# Altium footprint library MLACH_obsolete.PCBLIB: 154 footprints (part 6 of 10)
Each footprint in its own frame and in the unit in brackets; x right, y up, seen from the top. Pads: shape width x height; smd on the part's side, far side on the other; paste and mask are expansions set on the pad; w line width, h text height; cw(c..) or ccw(c..) is an arc to the next point about the centre after c.
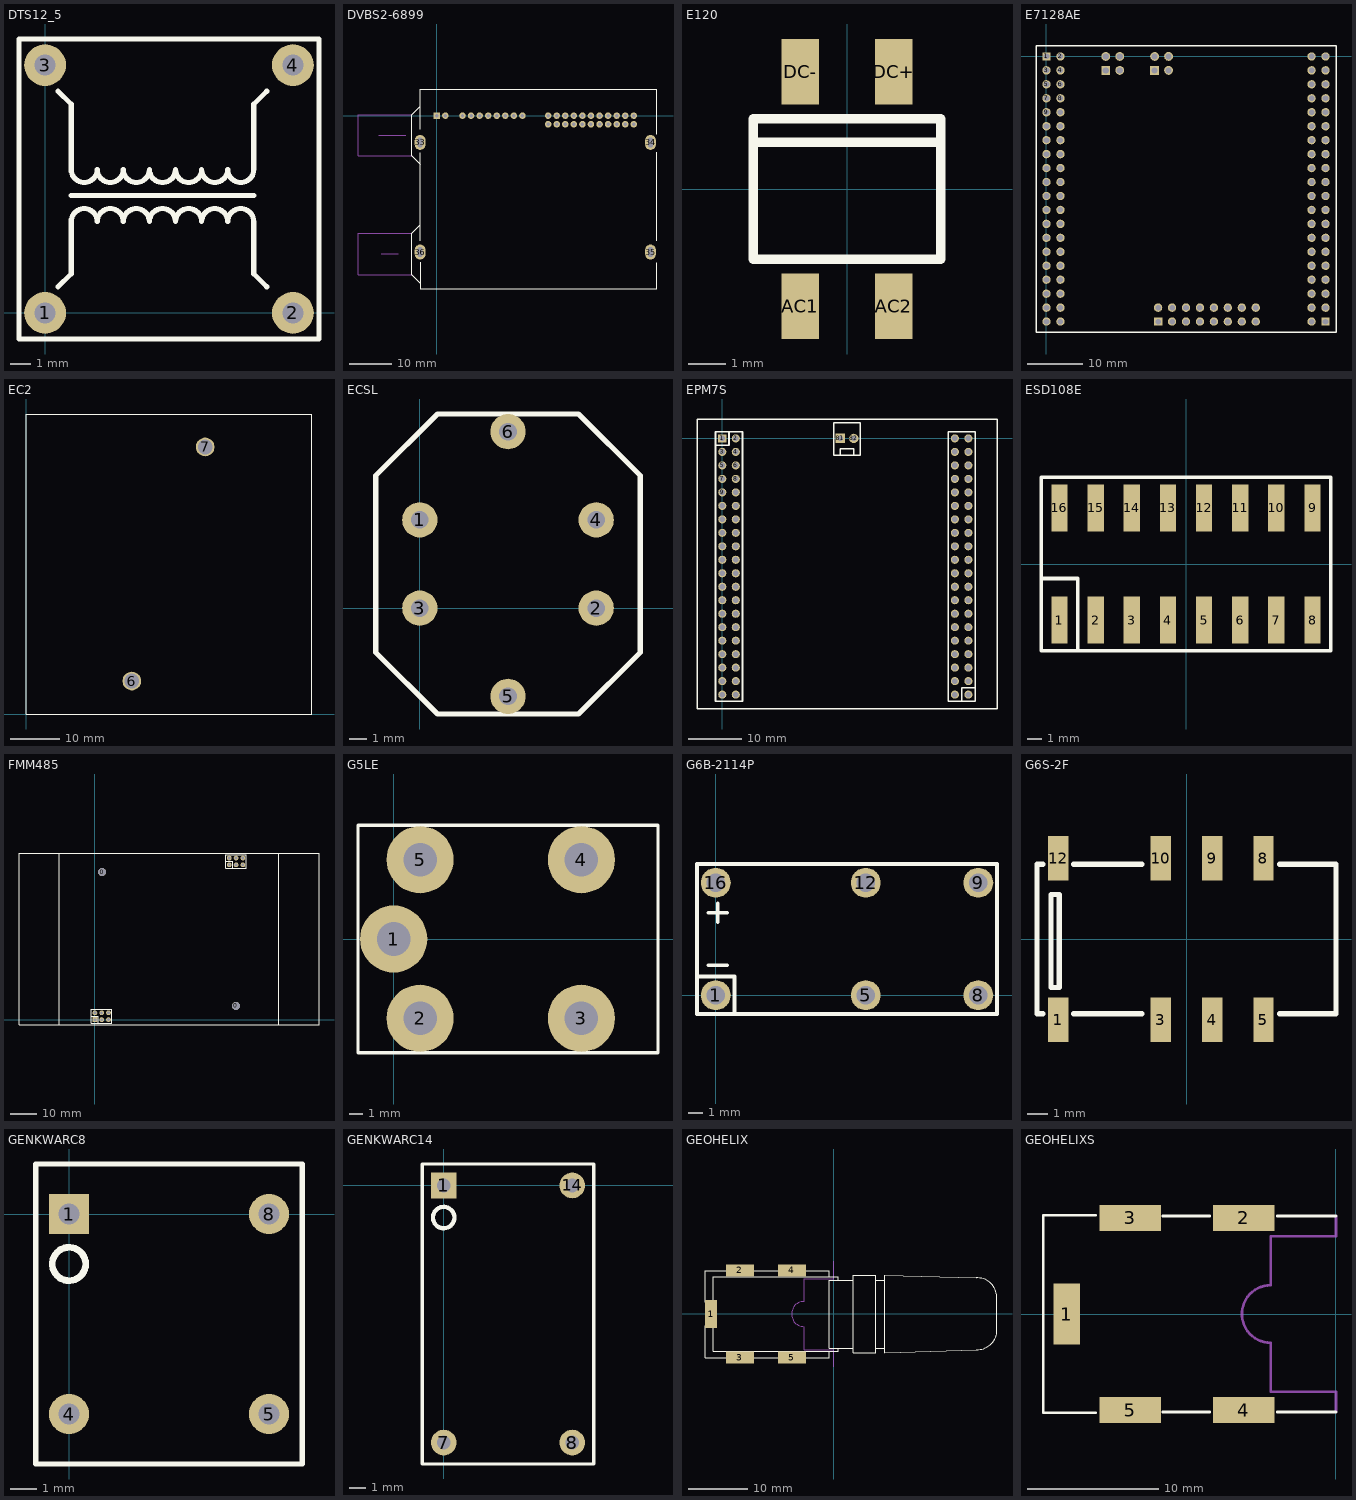
[diagram p5: the footprints below, top view; thin cyan lines are the x and y axes]

## DTS12_5 [mil]
pads (4):
  round 80 hole 40: 1(0,0) 2(475,0) 3(0,475) 4(475,475)
TopOverlay:
  lines w10: 25,50 50,75 50,175 cw(c75,175) 100,175 cw(c125,175) 150,175 cw(c175,175) 200,175 cw(c225,175) 250,175 cw(c275,175) 300,175 cw(c325,175) 350,175 cw(c375,175) 400,175 400,75 425,50 ; 25,425 50,400 50,275 ccw(c75,275) 100,275 ccw(c125,275) 150,275 ccw(c175,275) 200,275 ccw(c225,275) 250,275 ccw(c275,275) 300,275 ccw(c325,275) 350,275 ccw(c375,275) 400,275 400,400 425,425 ; 50,225 400,225 ; -50,-50 525,-50 525,525 -50,525 -50,-50

## DVBS2-6899 [mil]
pads (36):
  rect 60x60 hole 32: 1(0,0)
  round 60 hole 32: 2(78.74,0) 3(236.22,0) 4(314.96,0) 5(393.7,0) 6(472.44,0) 7(551.18,0) 8(629.92,0) 9(708.66,0) 10(787.4,0) 11(1023.62,0) 12(1102.36,0) 13(1181.1,0) 14(1259.84,0) 15(1338.58,0) 16(1417.32,0) 17(1496.06,0) 18(1574.8,0) 19(1653.54,0) 20(1732.28,0) 21(1811.02,0) 22(1023.62,-78.74) 23(1102.36,-78.74) 24(1181.1,-78.74) 25(1259.84,-78.74) 26(1338.58,-78.74) 27(1417.32,-78.74) 28(1496.06,-78.74) 29(1574.8,-78.74) 30(1653.54,-78.74) 31(1732.28,-78.74) 32(1811.02,-78.74)
  oval 98.43x137.8 hole 40 slot 90.55 at 90 deg: 33(-153.54,-246.06) 34(1964.57,-246.06) 35(1964.57,-1253.94) 36(-153.54,-1253.94)
TopOverlay:
  lines w8: -153.54,-1539.37 -232.28,-1460.63 -232.28,-1082.68 -153.54,-1003.94 ; -153.54,-1346.46 -153.54,-1592.52 2019.68,-1592.52 2019.68,-1354.33 ; -153.54,-1149.61 -153.54,-342.52 ; -153.54,-448.82 -232.28,-370.08 -232.28,7.87 -153.54,86.61 ; -153.54,-125.98 -153.54,244.09 2019.68,244.09 2019.68,-169.29 ; 2019.68,-1149.61 2019.68,-334.65
Mechanical2:
  lines w8: -531.5,-181.1 -287.4,-181.1 ; -511.81,-1271.65 -354.33,-1271.65 ; -232.28,-1460.63 -724.41,-1460.63 -724.41,-1082.68 -232.28,-1082.68 ; -232.28,-370.08 -724.41,-370.08 -724.41,7.87 -232.28,7.87

## E120 [mil]
pads (4):
  rect 40x70 smd: AC1(-50,-125) AC2(50,-125) DC+(50,125) DC-(-50,125)
TopOverlay:
  lines w10: -100,50 100,50 ; -100,-75 100,-75 100,75 -100,75 -100,-75

## E7128AE [mil]
pads (104):
  rect 60x60 hole 40: 1(0,0) 41(2000,-1900) 81(800,-1900)
  round 60 hole 40: 2(100,0) 3(0,-100) 4(100,-100) 5(0,-200) 6(100,-200) 7(0,-300) 8(100,-300) 9(0,-400) 10(100,-400) 11(0,-500) 12(100,-500) 13(0,-600) 14(100,-600) 15(0,-700) 16(100,-700) 17(0,-800) 18(100,-800) 19(0,-900) 20(100,-900) 21(0,-1000) 22(100,-1000) 23(0,-1100) 24(100,-1100) 25(0,-1200) 26(100,-1200) 27(0,-1300) 28(100,-1300) 29(0,-1400) 30(100,-1400) 31(0,-1500) 32(100,-1500) 33(0,-1600) 34(100,-1600) 35(0,-1700) 36(100,-1700) 37(0,-1800) 38(100,-1800) 39(0,-1900) 40(100,-1900) 42(1900,-1900) 43(2000,-1800) 44(1900,-1800) 45(2000,-1700) 46(1900,-1700) 47(2000,-1600) 48(1900,-1600) 49(2000,-1500) 50(1900,-1500) 51(2000,-1400) 52(1900,-1400) 53(2000,-1300) 54(1900,-1300) 55(2000,-1200) 56(1900,-1200) 57(2000,-1100) 58(1900,-1100) 59(2000,-1000) 60(1900,-1000) 61(2000,-900) 62(1900,-900) 63(2000,-800) 64(1900,-800) 65(2000,-700) 66(1900,-700) 67(2000,-600) 68(1900,-600) 69(2000,-500) 70(1900,-500) 71(2000,-400) 72(1900,-400) 73(2000,-300) 74(1900,-300) 75(2000,-200) 76(1900,-200) 77(2000,-100) 78(1900,-100) 79(2000,0) 80(1900,0) 82(800,-1800) 83(900,-1900) 84(900,-1800) 85(1000,-1900) 86(1000,-1800) 87(1100,-1900) 88(1100,-1800) 89(1200,-1900) 90(1200,-1800) 91(1300,-1900) 92(1300,-1800) 93(1400,-1900) 94(1400,-1800) 95(1500,-1900) 96(1500,-1800)
  rect 63x63 hole 45: 97(775,-100) 101(425,-100)
  round 63 hole 45: 98(775,0) 99(875,-100) 100(875,0) 102(425,0) 103(525,-100) 104(525,0)
TopOverlay:
  lines w10: -75,-1975 -75,75 2075,75 2075,-1975 -75,-1975

## EC2 [mm]
pads (2):
  round 3.81 hole 2.997: 6(21.45,6.7) 7(36.35,54.3)
TopOverlay:
  lines w0.254: 0,0 58,0 58,61 0,61 0,0

## ECSL [mil]
pads (6):
  round 80 hole 40: 1(0,200) 2(400,0) 3(0,0) 4(400,200) 5(200,-200) 6(200,400)
TopOverlay:
  lines w12: -100,-100 40,-240 360,-240 500,-100 500,300 360,440 40,440 -100,300 -100,-100

## EPM7S [mil]
pads (82):
  rect 60x60 hole 40: 1(0,0)
  round 60 hole 40: 2(100,0) 3(0,-100) 4(100,-100) 5(0,-200) 6(100,-200) 7(0,-300) 8(100,-300) 9(0,-400) 10(100,-400) 11(0,-500) 12(100,-500) 13(0,-600) 14(100,-600) 15(0,-700) 16(100,-700) 17(0,-800) 18(100,-800) 19(0,-900) 20(100,-900) 21(0,-1000) 22(100,-1000) 23(0,-1100) 24(100,-1100) 25(0,-1200) 26(100,-1200) 27(0,-1300) 28(100,-1300) 29(0,-1400) 30(100,-1400) 31(0,-1500) 32(100,-1500) 33(0,-1600) 34(100,-1600) 35(0,-1700) 36(100,-1700) 37(0,-1800) 38(100,-1800) 39(0,-1900) 40(100,-1900) 41(1825,-1900) 42(1725,-1900) 43(1825,-1800) 44(1725,-1800) 45(1825,-1700) 46(1725,-1700) 47(1825,-1600) 48(1725,-1600) 49(1825,-1500) 50(1725,-1500) 51(1825,-1400) 52(1725,-1400) 53(1825,-1300) 54(1725,-1300) 55(1825,-1200) 56(1725,-1200) 57(1825,-1100) 58(1725,-1100) 59(1825,-1000) 60(1725,-1000) 61(1825,-900) 62(1725,-900) 63(1825,-800) 64(1725,-800) 65(1825,-700) 66(1725,-700) 67(1825,-600) 68(1725,-600) 69(1825,-500) 70(1725,-500) 71(1825,-400) 72(1725,-400) 73(1825,-300) 74(1725,-300) 75(1825,-200) 76(1725,-200) 77(1825,-100) 78(1725,-100) 79(1825,0) 80(1725,0)
  rect 70x70 hole 40: 81(875,0)
  round 70 hole 40: 82(975,0)
TopOverlay:
  lines w10: 875,-125 875,-75 975,-75 975,-125 ; -187.5,-2006.25 2037.5,-2006.25 2037.5,143.75 -187.5,143.75 -187.5,-2006.25 ; 825,-125 1025,-125 1025,115 825,115 825,-125
  lines w12: -50,-50 50,-50 50,50 ; 1775,-1950 1775,-1850 1875,-1850 ; -50,-1950 150,-1950 150,50 -50,50 -50,-1950 ; 1675,-1950 1875,-1950 1875,50 1675,50 1675,-1950

## ESD108E [mil]
pads (16):
  rect 45x130 smd: 1(-350,-155) 2(-250,-155) 3(-150,-155) 4(-50,-155) 5(50,-155) 6(150,-155) 7(250,-155) 8(350,-155) 9(350,155) 10(250,155) 11(150,155) 12(50,155) 13(-50,155) 14(-150,155) 15(-250,155) 16(-350,155)
TopOverlay:
  lines w10: -400,-40 -300,-40 -300,-240 ; -400,-240 400,-240 400,240 -400,240 -400,-240

## FMM485 [mil]
pads (14):
  round 118 hole 118: 0(105,2169) 0(2073,201)
  rect 70x70 hole 40: 1(0,0)
  round 70 hole 40: 2(0,100) 3(100,0) 6(200,100) 7(1975,2275) 8(1975,2375) 9(2075,2275) 10(2075,2375) 11(2175,2275) 12(2175,2375)
  round 70 hole 45: 4(100,100) 5(200,0)
TopOverlay:
  lines w10: 2703.35,-75 3293.9,-75 3293.9,2444.68 3293.58,2445 2703,2445 ; -525,-75 -525,2445 ; -525,-75 2703,-75 2703,2445 ; -525,-75 -1115.55,-75 -1115.55,2444.68 -1115.24,2445 -525,2445 ; -525,2445 2703,2445
  lines w12: -50,50 50,50 50,-50 ; 1925,2325 2025,2325 2025,2225 ; -50,-50 -50,150 250,150 250,-50 -50,-50 ; 1925,2225 2225,2225 2225,2425 1925,2425 1925,2225

## G5LE [mm]
pads (5):
  round 5.08 hole 2.54: 1(0,0) 2(2,-6) 3(14.2,-6) 4(14.2,6) 5(2,6)
TopOverlay:
  lines w0.254: -2.7,-8.6 -2.7,8.6 20,8.6 20,-8.6 -2.7,-8.6

## G6B-2114P [mil]
pads (6):
  round 80 hole 50: 1(0,0) 5(400,0) 8(700,0) 9(700,300) 12(400,300) 16(0,300)
TopOverlay:
  lines w10: -50,50 50,50 50,-50 ; -20,80 30,80 ; -20,220 30,220 ; 5,195 5,245 ; -50,-50 -50,350 0,350 750,350 750,-50 0,-50 -50,-50

## G6S-2F [mm]
pads (8):
  rect 1x2.2 smd: 1(-6.35,-4) 3(-1.27,-4) 4(1.27,-4) 5(3.81,-4) 8(3.81,4) 9(1.27,4) 10(-1.27,4) 12(-6.35,4)
TopOverlay:
  lines w0.254: -7.1,-3.7 -7.4,-3.7 -7.4,3.7 -7.1,3.7 ; -5.6,-3.7 -2.2,-3.7 ; -5.6,3.7 -2.2,3.7 ; 4.6,-3.7 7.4,-3.7 7.4,3.7 4.6,3.7 ; -6.7,-2.4 -6.3,-2.4 -6.3,2.2 -6.7,2.2 -6.7,-2.4

## GENKWARC8 [mil]
pads (4):
  rect 60x60 hole 32: 1(0,0)
  round 60 hole 32: 4(0,-300) 5(300,-300) 8(300,0)
TopOverlay:
  circle w10: c0,-75 r25
  lines w8: -50,-375 -50,75 350,75 350,-375 -50,-375

## GENKWARC14 [mil]
pads (4):
  rect 60x60 hole 32: 1(0,0)
  round 60 hole 32: 7(0,-600) 8(300,-600) 14(300,0)
TopOverlay:
  circle w10: c0,-75 r25
  lines w8: -50,-650 -50,50 50,50 175,50 250,50 350,50 350,-650 250,-650 50,-650 -50,-650

## GEOHELIX [mil]
pads (5):
  rect 80x185 smd: 1(-810.28,-2.2)
  rect 185x80 smd: 2(-619.02,286) 3(-619.02,-290) 4(-276.02,286) 5(-276.02,-290)
TopOverlay:
  lines w5: -28.78,-248.27 -28.78,-289.61 -198.07,-289.61 -207.91,-269.92 -345.71,-269.92 -355.55,-289.61 -544.53,-289.61 -554.37,-269.92 -692.17,-269.92 -702.01,-289.61 ; -28.78,243.86 -28.78,285.2 -198.07,285.2 -207.91,265.51 -345.71,265.51 -355.55,285.2 -544.53,285.2 -554.37,265.51 -692.17,265.51 -702.01,285.2 -847.68,285.2 -847.68,76.54 -827.99,66.69 -827.99,-71.1 -847.68,-80.94 ; 30.28,-226.61 30.28,-248.27 -796.5,-248.27 -796.5,243.86 30.28,243.86 30.28,222.2 ; 128.7,-226.61 -28.78,-226.61 -28.78,222.2 128.7,222.2 ; 278.31,-226.61 337.36,-226.61 ; 278.31,222.2 337.36,222.2 ; 939.64,236.17 cw(c947.6,106.06) 1077.82,111.98 ; 941.69,-236.75 ccw(c947.6,-106.54) 1077.94,-108.58 ; 943.66,-236.46 337.36,-258.11 337.36,253.7 943.66,235.98 ; 1077.52,-108.5 1077.52,111.97 ; -847.68,-289.61 -702.01,-289.61 ; -847.68,-289.61 -702.01,-289.61 ; -847.68,-289.61 -847.68,-80.94 ; -847.68,-289.61 -847.68,-80.94 ; 128.7,-258.11 128.7,253.7 278.31,253.7 278.31,-258.11 128.7,-258.11
Mechanical1:
  lines w5: 0.75,-350.63 0.75,-236.46 -196.1,-236.46 -196.1,-84.88 cw(c-196.1,-2.2) -196.1,80.47 -196.1,232.05 0.75,232.05 0.75,346.22

## GEOHELIXS [mm]
pads (5):
  rect 2x4.7 smd: 1(-20.6,0)
  rect 4.7x2 smd: 2(-7.05,7.35) 3(-15.75,7.35) 4(-7.05,-7.35) 5(-15.75,-7.35)
TopOverlay:
  lines w0.203: -18.4,-7.55 -22.4,-7.55 -22.4,0 -22.4,7.55 -18.4,7.55 ; -13.25,-7.5 -9.65,-7.5 ; -13.25,7.5 -9.65,7.5 ; -4.5,-7.5 0,-7.5 ; -4.5,7.5 0,7.5
Mechanical1:
  lines w0.203: 0,-7.5 0,-5.95 -5,-5.95 -5,-2.2 cw(c-5,0) -5,2.2 -5,5.95 0,5.95 0,7.5